# Altium schematic symbol library Sensor_Temperature.SchLib: 100 symbols
Pins are listed as number, name and electrical type; pins without a type are passive.

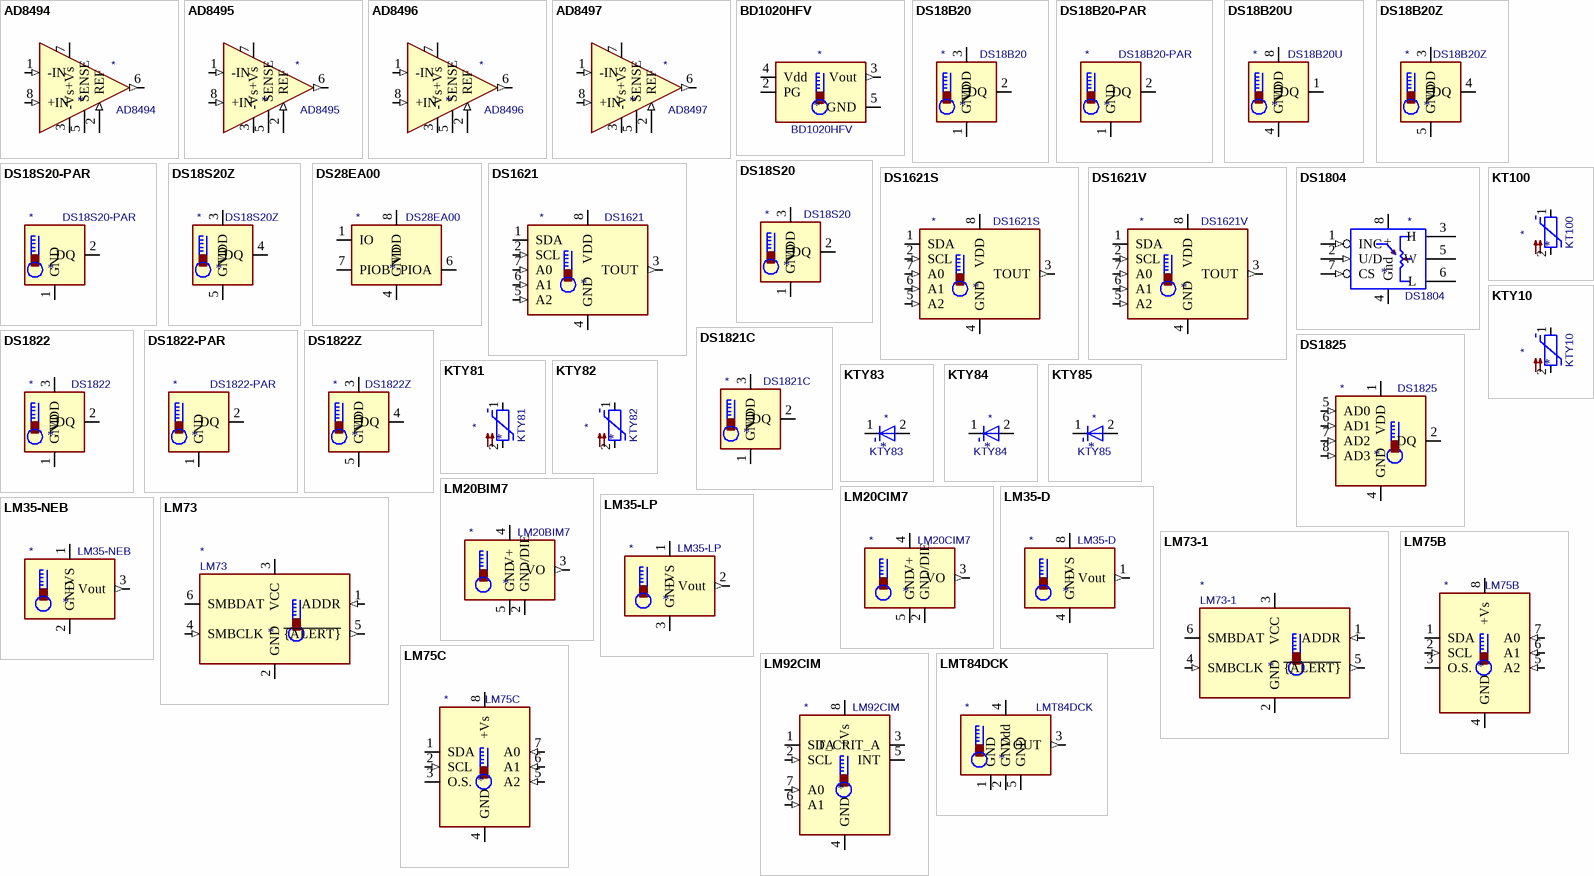
[diagram p0: symbols AD8494 to LMT84DCK]

## AD8494
designator *  value AD8494
ki_keywords: Thermocouple Amp; ki_description: Precision Thermocouple Amplifiers with Cold Junction Compensation, J-Type Thermocouple, 0 to 50C, MSOP-8; ki_fp_filters: MSOP*8*; Footprint: Package_SO:MSOP-8_3x3mm_P0.65mm; Supplier: https://www.analog.com/media/en/technical-documentation/data-sheets/ad8494_8495_8496_8497.pdf
footprint MSOP-8_3x3mm_P0.65mm
pins: 1 -IN (in), 2 REF (in), 3 -Vs (power), 4 NC (in) hidden, 5 SENSE, 6 (out), 7 +Vs (power), 8 +IN (in)

## AD8495
designator *  value AD8495
ki_keywords: Thermocouple Amp; ki_description: Precision Thermocouple Amplifiers with Cold Junction Compensation, K-Type Thermocouple, 0 to 50C, MSOP-8; ki_fp_filters: MSOP*8*; Footprint: Package_SO:MSOP-8_3x3mm_P0.65mm; Supplier: https://www.analog.com/media/en/technical-documentation/data-sheets/ad8494_8495_8496_8497.pdf
footprint MSOP-8_3x3mm_P0.65mm
pins: 1 -IN (in), 2 REF (in), 3 -Vs (power), 4 NC (in) hidden, 5 SENSE, 6 (out), 7 +Vs (power), 8 +IN (in)

## AD8496
designator *  value AD8496
ki_keywords: Thermocouple Amp; ki_description: Precision Thermocouple Amplifiers with Cold Junction Compensation, J-Type Thermocouple, 25 to 100C, MSOP-8; ki_fp_filters: MSOP*8*; Footprint: Package_SO:MSOP-8_3x3mm_P0.65mm; Supplier: https://www.analog.com/media/en/technical-documentation/data-sheets/ad8494_8495_8496_8497.pdf
footprint MSOP-8_3x3mm_P0.65mm
pins: 1 -IN (in), 2 REF (in), 3 -Vs (power), 4 NC (in) hidden, 5 SENSE, 6 (out), 7 +Vs (power), 8 +IN (in)

## AD8497
designator *  value AD8497
ki_keywords: Thermocouple Amp; ki_description: Precision Thermocouple Amplifiers with Cold Junction Compensation, K-Type Thermocouple, 25 to 100C, MSOP-8; ki_fp_filters: MSOP*8*; Footprint: Package_SO:MSOP-8_3x3mm_P0.65mm; Supplier: https://www.analog.com/media/en/technical-documentation/data-sheets/ad8494_8495_8496_8497.pdf
footprint MSOP-8_3x3mm_P0.65mm
pins: 1 -IN (in), 2 REF (in), 3 -Vs (power), 4 NC (in) hidden, 5 SENSE, 6 (out), 7 +Vs (power), 8 +IN (in)

## BD1020HFV
designator *  value BD1020HFV
ki_keywords: Temperature sensor; ki_description: Analog Output Temperature Sensor; ki_fp_filters: HVSOF5*; Footprint: Package_TO_SOT_SMD:HVSOF5; Supplier: http://rohmfs.rohm.com/en/products/databook/datasheet/ic/sensor/temperature/bd1020hfv-e.pdf
footprint HVSOF5
pins: 1 NC (in) hidden, 2 PG, 3 Vout (out), 4 Vdd (power), 5 GND (power)

## DS18B20
designator *  value DS18B20
ki_keywords: OneWire 1Wire Dallas Maxim; ki_description: Programmable Resolution 1-Wire Digital Thermometer TO-92; ki_fp_filters: TO*92*; Footprint: Package_TO_SOT_THT:TO-92_Inline; Supplier: http://datasheets.maximintegrated.com/en/ds/DS18B20.pdf
footprint TO-92_Inline
pins: 1 GND (power), 2 DQ (io), 3 VDD (power)

## DS18B20-PAR
designator *  value DS18B20-PAR
ki_keywords: OneWire 1Wire Maxim Dallas; ki_description: 1-Wire Parasite-Power Digital Thermometer TO-92; ki_fp_filters: TO*92*; Footprint: Package_TO_SOT_THT:TO-92_Inline; Supplier: http://datasheets.maximintegrated.com/en/ds/DS18B20-PAR.pdf
footprint TO-92_Inline
pins: 1 GND (power), 2 DQ (io), 3 NC (in) hidden

## DS18B20U
designator *  value DS18B20U
ki_keywords: OneWire 1-Wire 1Wire Maxim Dallas; ki_description: Programmable Resolution 1-Wire Digital Thermometer MSOP-8; ki_fp_filters: MSOP*3x3mm*P0.65mm*; Footprint: Package_SO:MSOP-8_3x3mm_P0.65mm; Supplier: http://datasheets.maximintegrated.com/en/ds/DS18B20.pdf
footprint MSOP-8_3x3mm_P0.65mm
pins: 1 DQ (io), 2 NC (in) hidden, 3 NC (in) hidden, 4 GND (power), 5 NC (in) hidden, 6 NC (in) hidden, 7 NC (in) hidden, 8 VDD (power)

## DS18B20Z
designator *  value DS18B20Z
ki_keywords: OneWire 1Wire Maxim Dallas; ki_description: Programmable Resolution 1-Wire Digital Thermometer SOIC-8; ki_fp_filters: SOIC*3.9x4.9mm*P1.27mm*; Footprint: Package_SO:SOIC-8_3.9x4.9mm_P1.27mm; Supplier: http://datasheets.maximintegrated.com/en/ds/DS18B20.pdf
footprint SOIC-8_3.9x4.9mm_P1.27mm
pins: 1 NC (in) hidden, 2 NC (in) hidden, 3 VDD (power), 4 DQ (io), 5 GND (power), 6 NC (in) hidden, 7 NC (in) hidden, 8 NC (in) hidden

## DS18S20
designator *  value DS18S20
ki_keywords: OneWire 1Wire Maxim Dallas; ki_description: High-Precision 1-Wire Digital Thermometer TO-92; ki_fp_filters: TO*92*; Footprint: Package_TO_SOT_THT:TO-92_Inline; Supplier: http://datasheets.maximintegrated.com/en/ds/DS18S20.pdf
footprint TO-92_Inline
pins: 1 GND (power), 2 DQ (io), 3 VDD (power)

## DS18S20-PAR
designator *  value DS18S20-PAR
ki_keywords: OneWire 1Wire Maxim Dallas; ki_description: 1-Wire Parasite-Power Digital Thermometer TO-92; ki_fp_filters: TO*92*; Footprint: Package_TO_SOT_THT:TO-92_Inline; Supplier: http://datasheets.maximintegrated.com/en/ds/DS18S20-PAR.pdf
footprint TO-92_Inline
pins: 1 GND (power), 2 DQ (io), 3 NC (in) hidden

## DS18S20Z
designator *  value DS18S20Z
ki_keywords: OneWire 1Wire Dallas Maxim; ki_description: High-Precision 1-Wire Digital Thermometer SOIC-8; ki_fp_filters: SOIC*3.9x4.9mm*P1.27mm*; Footprint: Package_SO:SOIC-8_3.9x4.9mm_P1.27mm; Supplier: http://datasheets.maximintegrated.com/en/ds/DS18S20.pdf
footprint SOIC-8_3.9x4.9mm_P1.27mm
pins: 1 NC (in) hidden, 2 NC (in) hidden, 3 VDD (power), 4 DQ (io), 5 GND (power), 6 NC (in) hidden, 7 NC (in) hidden, 8 NC (in) hidden

## DS28EA00
designator *  value DS28EA00
ki_keywords: 1Wire OneWire Maxim Dallas; ki_description: 1-Wire Digital Thermometer with Sequence Detect and PIO; ki_fp_filters: MSOP*3x3mm*P0.65mm*; Footprint: Package_SO:MSOP-8_3x3mm_P0.65mm; Supplier: http://datasheets.maximintegrated.com/en/ds/DS28EA00.pdf
footprint MSOP-8_3x3mm_P0.65mm
pins: 1 IO (io), 2 NC (in) hidden, 3 NC (in) hidden, 4 GND (power), 5 NC (in) hidden, 6 PIOA (io), 7 PIOB (io), 8 VDD (power)

## DS1621
designator *  value DS1621
ki_keywords: OneWire 1-Wire 1Wire Maxim Dallas; ki_description: 1-Wire Digital Thermometer and Thermostat, DIP-8; ki_fp_filters: DIP*W7.62mm*; Footprint: Package_DIP:DIP-8_W7.62mm; Supplier: https://datasheets.maximintegrated.com/en/ds/DS1621.pdf
footprint DIP-8_W7.62mm
pins: 1 SDA (io), 2 SCL (in), 3 TOUT (out), 4 GND (power), 5 A2 (in), 6 A1 (in), 7 A0 (in), 8 VDD (power)

## DS1621S
designator *  value DS1621S
ki_keywords: OneWire 1-Wire 1Wire Maxim Dallas; ki_description: 1-Wire Digital Thermometer and Thermostat, SOIC-8; ki_fp_filters: SOIC*3.9x4.9mm*P1.27mm*; Footprint: Package_SO:SOIC-8_3.9x4.9mm_P1.27mm; Supplier: https://datasheets.maximintegrated.com/en/ds/DS1621.pdf
footprint SOIC-8_3.9x4.9mm_P1.27mm
pins: 1 SDA (io), 2 SCL (in), 3 TOUT (out), 4 GND (power), 5 A2 (in), 6 A1 (in), 7 A0 (in), 8 VDD (power)

## DS1621V
designator *  value DS1621V
ki_keywords: OneWire 1-Wire 1Wire Maxim Dallas; ki_description: 1-Wire Digital Thermometer and Thermostat, SO-8; ki_fp_filters: SO*5.3x6.2mm*P1.27mm*; Footprint: Package_SO:SO-8_5.3x6.2mm_P1.27mm; Supplier: https://datasheets.maximintegrated.com/en/ds/DS1621.pdf
footprint SO-8_5.3x6.2mm_P1.27mm
pins: 1 SDA (io), 2 SCL (in), 3 TOUT (out), 4 GND (power), 5 A2 (in), 6 A1 (in), 7 A0 (in), 8 VDD (power)

## DS1804
designator *  value DS1804
pins: 1 INC (in), 2 U/D (in), 3 H, 4 Gnd (power), 5 W, 6 L, 7 CS (in), 8 + (power)

## DS1821C
designator *  value DS1821C
ki_keywords: OneWire 1Wire Maxim Dallas; ki_description: Programmable Digital Thermostat and Thermometer TO-92; ki_fp_filters: TO*92*; Footprint: Package_TO_SOT_THT:TO-92_Inline; Supplier: http://datasheets.maximintegrated.com/en/ds/DS1821.pdf
footprint TO-92_Inline
pins: 1 GND (power), 2 DQ (io), 3 VDD (power)

## DS1822
designator *  value DS1822
ki_keywords: OneWire 1Wire Dallas Maxim; ki_description: Econo 1-Wire Digital Thermometer TO-92; ki_fp_filters: TO*92*; Footprint: Package_TO_SOT_THT:TO-92_Inline; Supplier: http://datasheets.maximintegrated.com/en/ds/DS1822.pdf
footprint TO-92_Inline
pins: 1 GND (power), 2 DQ (io), 3 VDD (power)

## DS1822-PAR
designator *  value DS1822-PAR
ki_keywords: OneWire 1Wire Maxim Dallas; ki_description: Econo 1-Wire Parasite-Power Digital Thermometer TO-92; ki_fp_filters: TO*92*; Footprint: Package_TO_SOT_THT:TO-92_Inline; Supplier: http://datasheets.maximintegrated.com/en/ds/DS1822-PAR.pdf
footprint TO-92_Inline
pins: 1 GND (power), 2 DQ (io), 3 NC (in) hidden

## DS1822Z
designator *  value DS1822Z
ki_keywords: OneWire 1-Wire 1Wire Maxim Dallas; ki_description: Econo 1-Wire Digital Thermometer SOIC-8; ki_fp_filters: SOIC*3.9x4.9mm*P1.27mm*; Footprint: Package_SO:SOIC-8_3.9x4.9mm_P1.27mm; Supplier: http://datasheets.maximintegrated.com/en/ds/DS1822.pdf
footprint SOIC-8_3.9x4.9mm_P1.27mm
pins: 1 NC (in) hidden, 2 NC (in) hidden, 3 VDD (power), 4 DQ (io), 5 GND (power), 6 NC (in) hidden, 7 NC (in) hidden, 8 NC (in) hidden

## DS1825
designator *  value DS1825
ki_keywords: 1Wire OneWire Maxim Dallas; ki_description: Programmable Resolution 1-Wire Digital Thermometer With 4-Bit ID MSOP-8; ki_fp_filters: MSOP*3x3mm*P0.65mm*; Footprint: Package_SO:MSOP-8_3x3mm_P0.65mm; Supplier: http://datasheets.maximintegrated.com/en/ds/DS1825.pdf
footprint MSOP-8_3x3mm_P0.65mm
pins: 1 VDD (power), 2 DQ (io), 3 NC (in) hidden, 4 GND (power), 5 AD0 (in), 6 AD1 (in), 7 AD2 (in), 8 AD3 (in)

## KT100
designator *  value KT100
ki_keywords: silicon temperature sensors; ki_description: KTY10/KT100 series silicon temperature sensors; ki_fp_filters: SOD?70*; Supplier: http://www.b-kainka.de/Daten/Sensor/kty10.pdf
pins: 1, 2

## KTY10
designator *  value KTY10
ki_keywords: silicon temperature sensors; ki_description: KTY10/KT100 series silicon temperature sensors; ki_fp_filters: SOD?70*; Supplier: http://www.b-kainka.de/Daten/Sensor/kty10.pdf
pins: 1, 2

## KTY81
designator *  value KTY81
ki_keywords: silicon temperature sensors; ki_description: KTY81 series silicon temperature sensors; ki_fp_filters: SOD?70*; Supplier: http://www.nxp.com/documents/data_sheet/KTY81_SER.pdf
pins: 1, 2

## KTY82
designator *  value KTY82
ki_keywords: silicon temperature sensors; ki_description: KTY82 series silicon temperature sensors, SOT-23; ki_fp_filters: SOT?23*; Footprint: Package_TO_SOT_SMD:SOT-23; Supplier: http://www.nxp.com/documents/data_sheet/KTY82_SER.pdf
footprint SOT-23
pins: 1, 2

## KTY83
designator *  value KTY83
ki_keywords: silicon temperature sensors diode; ki_description: KTY83 series silicon temperature sensors, polarized, SOD68; ki_fp_filters: *DO?34*SOD68*; Footprint: Diode_THT:D_DO-34_SOD68_P7.62mm_Horizontal; Supplier: http://www.nxp.com/documents/data_sheet/KTY83_SER.pdf
footprint D_DO-34_SOD68_P7.62mm_Horizontal
pins: 1 K, 2 A

## KTY84
designator *  value KTY84
ki_keywords: silicon temperature sensor diode; ki_description: KTY84 series silicon temperature sensors, polarized, SOD68; ki_fp_filters: *DO?34*SOD68*; Footprint: Diode_THT:D_DO-34_SOD68_P7.62mm_Horizontal; Supplier: http://cache.nxp.com/documents/data_sheet/KTY84_SER.pdf?pspll=1
footprint D_DO-34_SOD68_P7.62mm_Horizontal
pins: 1 K, 2 A

## KTY85
designator *  value KTY85
ki_keywords: silicon temperature sensor diode; ki_description: KTY85 series silicon temperature sensors, polarized, SOD80; ki_fp_filters: SOD80*; Footprint: Diode_SMD:D_MiniMELF; Supplier: http://www.nxp.com/documents/other/SC17_GENERAL_TEMP_1996_3.pdf
footprint D_MiniMELF
pins: 1 K, 2 A

## LM20BIM7
designator *  value LM20BIM7
ki_keywords: temperature sensor thermistor; ki_description: Precision Temperature Sensor, Accuracy at 30°C ±1.5°C to ±4°C Maximum, SC70; ki_fp_filters: SOT?353*; Footprint: Package_TO_SOT_SMD:SOT-353_SC-70-5; Supplier: http://www.ti.com/lit/ds/symlink/lm20.pdf
footprint SOT-353_SC-70-5
pins: 1 NC (in) hidden, 2 GND/DIE, 3 VO (out), 4 V+ (power), 5 GND (power)

## LM20CIM7
designator *  value LM20CIM7
ki_keywords: temperature sensor thermistor; ki_description: Precision Temperature Sensor, Accuracy at 30°C ±4°C to ±5°C Maximum, SC70; ki_fp_filters: SOT?353*; Footprint: Package_TO_SOT_SMD:SOT-353_SC-70-5; Supplier: http://www.ti.com/lit/ds/symlink/lm20.pdf
footprint SOT-353_SC-70-5
pins: 1 NC (in) hidden, 2 GND/DIE, 3 VO (out), 4 V+ (power), 5 GND (power)

## LM35-D
designator *  value LM35-D
ki_keywords: temperature sensor thermistor; ki_description: Precision centigrade temperature sensor, SOIC-8; ki_fp_filters: SOIC*; Footprint: Package_SO:SOIC-8_3.9x4.9mm_P1.27mm; Supplier: http://www.ti.com/lit/ds/symlink/lm35.pdf
footprint SOIC-8_3.9x4.9mm_P1.27mm
pins: 1 Vout (out), 2 NC (in) hidden, 3 NC (in) hidden, 4 GND (power), 5 NC (in) hidden, 6 NC (in) hidden, 7 NC (in) hidden, 8 +VS (power)

## LM35-LP
designator *  value LM35-LP
ki_keywords: temperature sensor thermistor; ki_description: Precision centigrade temperature sensor, TO-92; ki_fp_filters: TO?92*; Supplier: http://www.ti.com/lit/ds/symlink/lm35.pdf
pins: 1 +VS (power), 2 Vout (out), 3 GND (power)

## LM35-NEB
designator *  value LM35-NEB
ki_keywords: temperature sensor thermistor; ki_description: Precision centigrade temperature sensor, TO-220; ki_fp_filters: TO?220*; Supplier: http://www.ti.com/lit/ds/symlink/lm35.pdf
pins: 1 +VS (power), 2 GND (power), 3 Vout (out)

## LM73
designator *  value LM73
ki_keywords: digital temperature sensor; ki_description: 11 to 14 Bit digital temperature sensor with 2 wire interface, SOT23-6; ki_fp_filters: SOT?23*; Footprint: Package_TO_SOT_SMD:SOT-23-6; Supplier: http://www.ti.com/lit/ds/symlink/lm73.pdf
footprint SOT-23-6
pins: 1 ADDR (in), 2 GND (power), 3 VCC (power), 4 SMBCLK (in), 5 ~{{ALERT}} (out), 6 SMBDAT (io)

## LM73-1
designator *  value LM73-1
ki_keywords: digital temperature sensor; ki_description: 11 to 14 Bit digital temperature sensor with 2 wire interface, SOT23-6; ki_fp_filters: SOT?23*; Footprint: Package_TO_SOT_SMD:SOT-23-6; Supplier: http://www.ti.com/lit/ds/symlink/lm73.pdf
footprint SOT-23-6
pins: 1 ADDR (in), 2 GND (power), 3 VCC (power), 4 SMBCLK (in), 5 ~{{ALERT}} (out), 6 SMBDAT (io)

## LM75B
designator *  value LM75B
ki_keywords: Temperature sensor; ki_description: Digital Temperature Sensor & Thermal Watchdog with LP on I2C and bus fault timeout, SOIC-8 and VSSOP-8; ki_fp_filters: SOIC*3.9x4.9mm*P1.27mm* VSSOP*3.0x3.0mm*P0.65mm*; Supplier: http://www.ti.com/lit/ds/symlink/lm75b.pdf
pins: 1 SDA (io), 2 SCL (in), 3 O.S. (oc), 4 GND (power), 5 A2 (in), 6 A1 (in), 7 A0 (in), 8 +Vs (power)

## LM75C
designator *  value LM75C
ki_keywords: Temperature sensor; ki_description: Digital Temperature Sensor & Thermal Watchdog, SOIC-8 and VSSOP-8; ki_fp_filters: SOIC*3.9x4.9mm*P1.27mm* VSSOP*3.0x3.0mm*P0.65mm*; Supplier: http://www.ti.com/lit/ds/symlink/lm75b.pdf
pins: 1 SDA (io), 2 SCL (in), 3 O.S. (oc), 4 GND (power), 5 A2 (in), 6 A1 (in), 7 A0 (in), 8 +Vs (power)

## LM92CIM
designator *  value LM92CIM
ki_keywords: temperature sensor; ki_description: Digital Temperature Sensor and Thermal Window Comparator With Two-Wire (I2C) Interface, SOIC-8; ki_fp_filters: SOIC*3.9x4.9mm*P1.27mm*; Footprint: Package_SO:SOIC-8_3.9x4.9mm_P1.27mm; Supplier: https://www.ti.com/lit/ds/symlink/lm92.pdf
footprint SOIC-8_3.9x4.9mm_P1.27mm
pins: 1 SDA (io), 2 SCL (in), 3 T_CRIT_A (oc), 4 GND (power), 5 INT (oc), 6 A1 (in), 7 A0 (in), 8 +Vs (power)

## LMT84DCK
designator *  value LMT84DCK
ki_keywords: temperature sensor thermistor ntc; ki_description: Analog temperature sensor, NTC, 0.4C accuracy, -5.5mV/C, -50C to +150C, 1.5 to 5.5V, SC-70-5; ki_fp_filters: SC-70-*; Footprint: Package_TO_SOT_SMD:SOT-353_SC-70-5; Supplier: http://www.ti.com/lit/ds/symlink/lmt84.pdf
footprint SOT-353_SC-70-5
pins: 1 GND (power), 2 GND (power), 3 OUT (out), 4 Vdd (power), 5 GND (power)

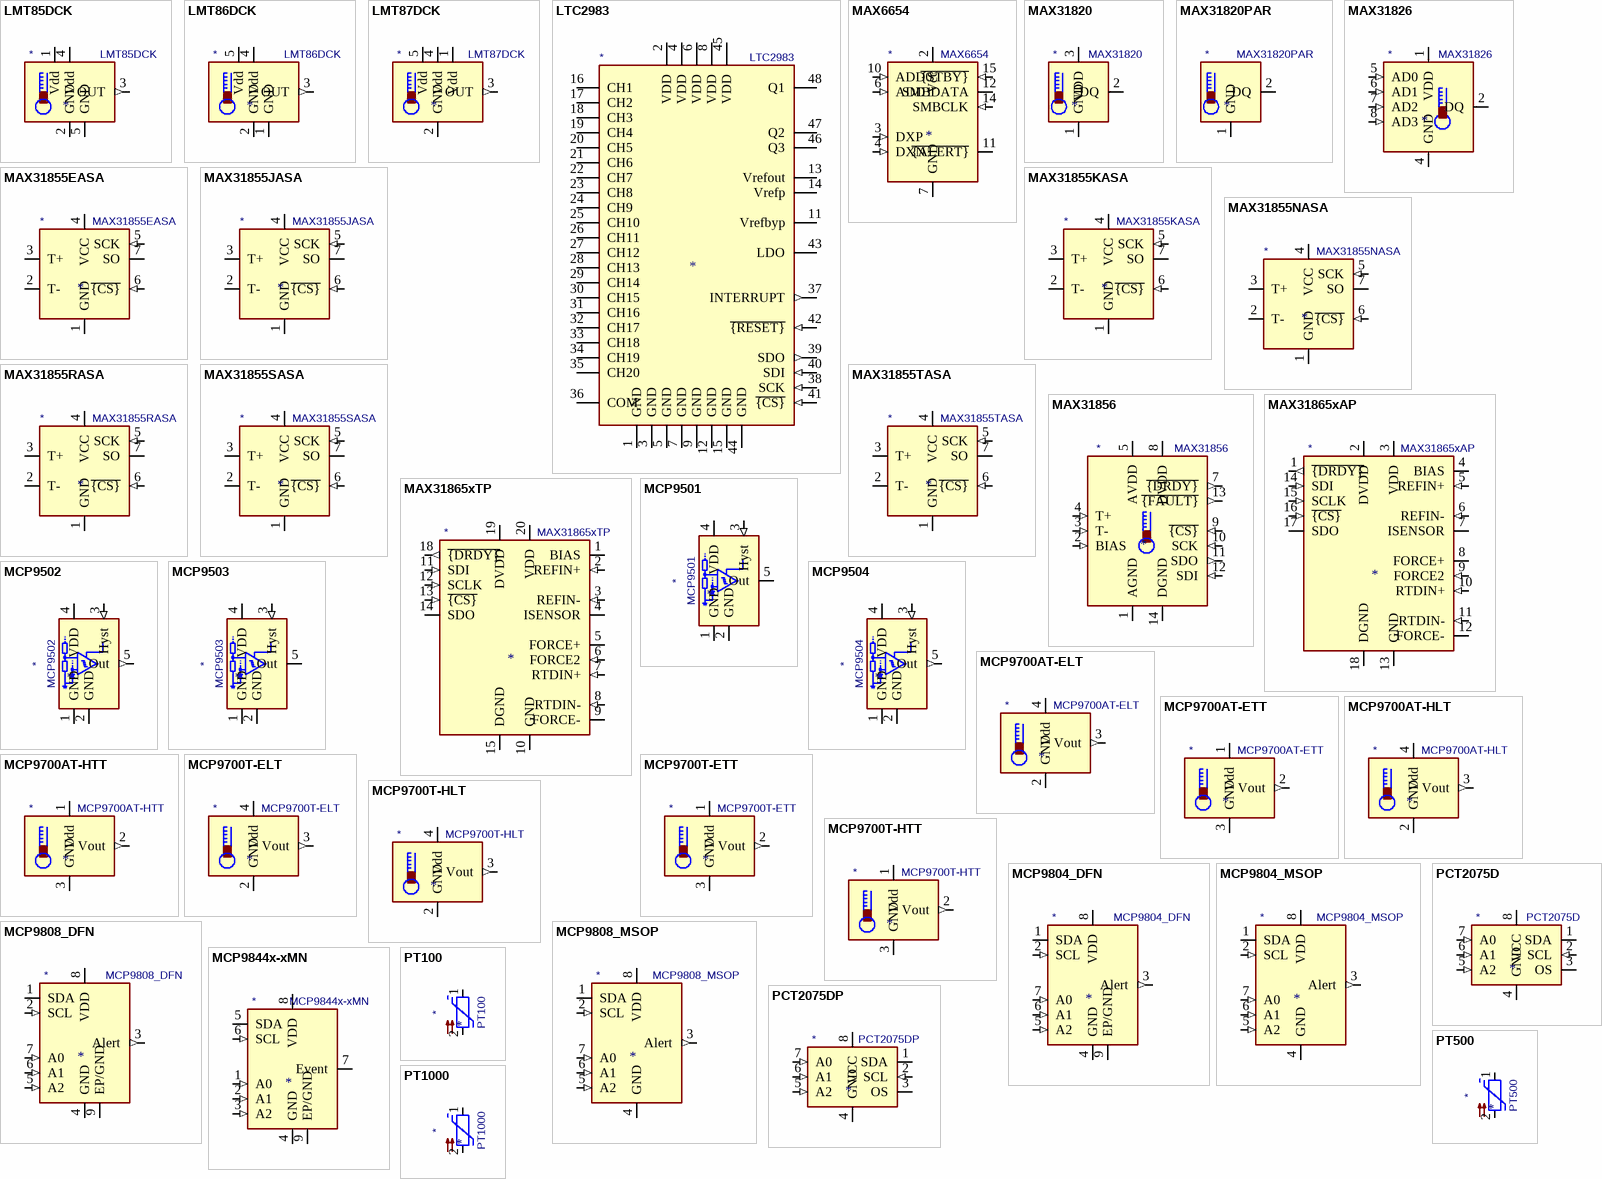
[diagram p1: symbols LMT85DCK to PT1000]

## LMT85DCK
designator *  value LMT85DCK
ki_keywords: temperature sensor thermistor ntc; ki_description: Analog temperature sensor, NTC, 0.3C accuracy, -8.2mV/C, -50C to +150C, 1.8 to 5.5V, SC-70-5; ki_fp_filters: SC-70-*; Footprint: Package_TO_SOT_SMD:SOT-353_SC-70-5; Supplier: http://www.ti.com/lit/ds/symlink/lmt85-q1.pdf
footprint SOT-353_SC-70-5
pins: 1 Vdd (power), 2 GND (power), 3 OUT (out), 4 Vdd (power), 5 GND (power)

## LMT86DCK
designator *  value LMT86DCK
ki_keywords: temperature sensor thermistor ntc; ki_description: Analog temperature sensor, NTC, 0.25C accuracy, -10.9mV/C, -50C to +150C, 2.2 to 5.5V, SC-70-5; ki_fp_filters: SC-70-*; Footprint: Package_TO_SOT_SMD:SOT-353_SC-70-5; Supplier: http://www.ti.com/lit/ds/symlink/lmt86-q1.pdf
footprint SOT-353_SC-70-5
pins: 1 GND (power), 2 GND (power), 3 OUT (out), 4 Vdd (power), 5 Vdd (power)

## LMT87DCK
designator *  value LMT87DCK
ki_keywords: temperature sensor thermistor ntc; ki_description: Analog temperature sensor, NTC, 0.3C accuracy, -13.6mV/C, -50C to +150C, 2.7 to 5.5V, SC-70-5; ki_fp_filters: SC-70-*; Footprint: Package_TO_SOT_SMD:SOT-353_SC-70-5; Supplier: http://www.ti.com/lit/ds/symlink/lmt87-q1.pdf
footprint SOT-353_SC-70-5
pins: 1 Vdd (power), 2 GND (power), 3 OUT (out), 4 Vdd (power), 5 Vdd (power)

## LTC2983
designator *  value LTC2983
ki_keywords: Flexible Temperature Measurement RTD NTC Cold Junction Termocouple; ki_description: Multi-Sensor Temperature Measurement System, High Accuracy, LQFP-48 (7x7mm); ki_fp_filters: LQFP*7x7mm*P0.5mm*; Footprint: Package_QFP:LQFP-48_7x7mm_P0.5mm; Supplier: https://www.analog.com/media/en/technical-documentation/data-sheets/2983fc.pdf
footprint LQFP-48_7x7mm_P0.5mm
pins: 1 GND (power), 2 VDD (power), 3 GND (power), 4 VDD (power), 5 GND (power), 6 VDD (power), 7 GND (power), 8 VDD (power), 9 GND (power), 11 Vrefbyp, 12 GND (power), 13 Vrefout, 14 Vrefp, 15 GND (power), 16 CH1, 17 CH2, 18 CH3, 19 CH4, 20 CH5, 21 CH6, 22 CH7, 23 CH8, 24 CH9, 25 CH10, 26 CH11, 27 CH12, 28 CH13, 29 CH14, 30 CH15, 31 CH16, 32 CH17, 33 CH18, 34 CH19, 35 CH20, 36 COM, 37 INTERRUPT (out), 38 SCK (in), 39 SDO (out), 40 SDI (in), 41 ~{{CS}} (in), 42 ~{{RESET}} (in), 43 LDO, 44 GND (power), 45 VDD (power), 46 Q3, 47 Q2, 48 Q1

## MAX6654
designator *  value MAX6654
ki_keywords: I2C SMBus Serial; ki_description: Remote and Local Temperature Sensor, SSOP-16; ki_fp_filters: *SOP*3.9x4.9mm*P0.635mm*; Footprint: Package_SO:SSOP-16_3.9x4.9mm_P0.635mm; Supplier: https://datasheets.maximintegrated.com/en/ds/MAX6654.pdf
footprint SSOP-16_3.9x4.9mm_P0.635mm
pins: 1 NC (in) hidden, 2 Vcc (power), 3 DXP (in), 4 DXN (in), 5 NC (in) hidden, 6 ADD1 (in), 7 GND (power), 8 GND hidden, 9 NC (in) hidden, 10 ADD0 (in), 11 ~{{ALERT}} (oc), 12 SMBDATA (io), 13 NC (in) hidden, 14 SMBCLK (in), 15 ~{{STBY}} (in), 16 NC (in) hidden

## MAX31820
designator *  value MAX31820
ki_keywords: OneWire 1-Wire 1Wire Maxim Dallas; ki_description: 1-Wire Ambient Temperature Sensor TO-92; ki_fp_filters: TO*92*; Footprint: Package_TO_SOT_THT:TO-92_Inline; Supplier: http://datasheets.maximintegrated.com/en/ds/MAX31820.pdf
footprint TO-92_Inline
pins: 1 GND (power), 2 DQ (io), 3 VDD (power)

## MAX31820PAR
designator *  value MAX31820PAR
ki_keywords: OneWire 1-Wire 1Wire Maxim Dallas; ki_description: 1-Wire, Parasite-Power, Ambient Temperature Sensor TO-92; ki_fp_filters: TO*92*; Footprint: Package_TO_SOT_THT:TO-92_Inline; Supplier: http://datasheets.maximintegrated.com/en/ds/MAX31820PAR.pdf
footprint TO-92_Inline
pins: 1 GND (power), 2 DQ (io), 3 NC (in) hidden

## MAX31826
designator *  value MAX31826
ki_keywords: 1Wire OneWire Maxim Dallas; ki_description: 1-Wire Digital Temperature Sensor with 1Kb Lockable EEPROM MSOP-8; ki_fp_filters: MSOP*3x3mm*P0.65mm*; Footprint: Package_SO:MSOP-8_3x3mm_P0.65mm; Supplier: http://datasheets.maximintegrated.com/en/ds/MAX31826.pdf
footprint MSOP-8_3x3mm_P0.65mm
pins: 1 VDD (power), 2 DQ (io), 3 NC (in) hidden, 4 GND (power), 5 AD0 (in), 6 AD1 (in), 7 AD2 (in), 8 AD3 (in)

## MAX31855EASA
designator *  value MAX31855EASA
ki_keywords: Cold Junction Termocouple Interface SPI; ki_description: Cold Junction E-type Termocouple Interface, SPI, SO8; ki_fp_filters: SOIC*3.9x4.9mm*P1.27mm*; Footprint: Package_SO:SOIC-8_3.9x4.9mm_P1.27mm; Supplier: http://datasheets.maximintegrated.com/en/ds/MAX31855.pdf
footprint SOIC-8_3.9x4.9mm_P1.27mm
pins: 1 GND (power), 2 T-, 3 T+, 4 VCC (power), 5 SCK (in), 6 ~{{CS}} (in), 7 SO (hiz)

## MAX31855JASA
designator *  value MAX31855JASA
ki_keywords: Cold Junction Termocouple Interface SPI; ki_description: Cold Junction J-type Termocouple Interface, SPI, SO8; ki_fp_filters: SOIC*3.9x4.9mm*P1.27mm*; Footprint: Package_SO:SOIC-8_3.9x4.9mm_P1.27mm; Supplier: http://datasheets.maximintegrated.com/en/ds/MAX31855.pdf
footprint SOIC-8_3.9x4.9mm_P1.27mm
pins: 1 GND (power), 2 T-, 3 T+, 4 VCC (power), 5 SCK (in), 6 ~{{CS}} (in), 7 SO (hiz)

## MAX31855KASA
designator *  value MAX31855KASA
ki_keywords: Cold Junction Termocouple Interface SPI; ki_description: Cold Junction K-type Termocouple Interface, SPI, SO8; ki_fp_filters: SOIC*3.9x4.9mm*P1.27mm*; Footprint: Package_SO:SOIC-8_3.9x4.9mm_P1.27mm; Supplier: http://datasheets.maximintegrated.com/en/ds/MAX31855.pdf
footprint SOIC-8_3.9x4.9mm_P1.27mm
pins: 1 GND (power), 2 T-, 3 T+, 4 VCC (power), 5 SCK (in), 6 ~{{CS}} (in), 7 SO (hiz)

## MAX31855NASA
designator *  value MAX31855NASA
ki_keywords: Cold Junction Termocouple Interface SPI; ki_description: Cold Junction N-type Termocouple Interface, SPI, SO8; ki_fp_filters: SOIC*3.9x4.9mm*P1.27mm*; Footprint: Package_SO:SOIC-8_3.9x4.9mm_P1.27mm; Supplier: http://datasheets.maximintegrated.com/en/ds/MAX31855.pdf
footprint SOIC-8_3.9x4.9mm_P1.27mm
pins: 1 GND (power), 2 T-, 3 T+, 4 VCC (power), 5 SCK (in), 6 ~{{CS}} (in), 7 SO (hiz)

## MAX31855RASA
designator *  value MAX31855RASA
ki_keywords: Cold Junction Termocouple Interface SPI; ki_description: Cold Junction R-type Termocouple Interface, SPI, SO8; ki_fp_filters: SOIC*3.9x4.9mm*P1.27mm*; Footprint: Package_SO:SOIC-8_3.9x4.9mm_P1.27mm; Supplier: http://datasheets.maximintegrated.com/en/ds/MAX31855.pdf
footprint SOIC-8_3.9x4.9mm_P1.27mm
pins: 1 GND (power), 2 T-, 3 T+, 4 VCC (power), 5 SCK (in), 6 ~{{CS}} (in), 7 SO (hiz)

## MAX31855SASA
designator *  value MAX31855SASA
ki_keywords: Cold Junction Termocouple Interface SPI; ki_description: Cold Junction S-type Termocouple Interface, SPI, SO8; ki_fp_filters: SOIC*3.9x4.9mm*P1.27mm*; Footprint: Package_SO:SOIC-8_3.9x4.9mm_P1.27mm; Supplier: http://datasheets.maximintegrated.com/en/ds/MAX31855.pdf
footprint SOIC-8_3.9x4.9mm_P1.27mm
pins: 1 GND (power), 2 T-, 3 T+, 4 VCC (power), 5 SCK (in), 6 ~{{CS}} (in), 7 SO (hiz)

## MAX31855TASA
designator *  value MAX31855TASA
ki_keywords: Cold Junction Termocouple Interface SPI; ki_description: Cold Junction T-type Termocouple Interface, SPI, SO8; ki_fp_filters: SOIC*3.9x4.9mm*P1.27mm*; Footprint: Package_SO:SOIC-8_3.9x4.9mm_P1.27mm; Supplier: http://datasheets.maximintegrated.com/en/ds/MAX31855.pdf
footprint SOIC-8_3.9x4.9mm_P1.27mm
pins: 1 GND (power), 2 T-, 3 T+, 4 VCC (power), 5 SCK (in), 6 ~{{CS}} (in), 7 SO (hiz)

## MAX31856
designator *  value MAX31856
ki_keywords: Thermocouple converter serial; ki_description: Precision Thermocouple to Digital Converter with Linearization, TSSOP-14; ki_fp_filters: TSSOP*14*4.4x5mm*P0.65mm*; Footprint: Package_SO:TSSOP-14_4.4x5mm_P0.65mm; Supplier: https://datasheets.maximintegrated.com/en/ds/MAX31856.pdf
footprint TSSOP-14_4.4x5mm_P0.65mm
pins: 1 AGND (power), 2 BIAS (in), 3 T- (in), 4 T+ (in), 5 AVDD (power), 6 DNC (in) hidden, 7 ~{{DRDY}} (out), 8 DVDD (power), 9 ~{{CS}} (in), 10 SCK (in), 11 SDO (out), 12 SDI (in), 13 ~{{FAULT}} (out), 14 DGND (power)

## MAX31865xAP
designator *  value MAX31865xAP
ki_keywords: RTD SPI Temperature; ki_description: RTD-to-Digital Converter, SSOP-20; ki_fp_filters: SSOP*P0.65mm*; Footprint: Package_SO:SSOP-20_5.3x7.2mm_P0.65mm; Supplier: https://datasheets.maximintegrated.com/en/ds/MAX31865.pdf
footprint SSOP-20_5.3x7.2mm_P0.65mm
pins: 1 ~{{DRDY}} (out), 2 DVDD (power), 3 VDD (power), 4 BIAS (power), 5 REFIN+ (in), 6 REFIN- (in), 7 ISENSOR, 8 FORCE+, 9 FORCE2 (in), 10 RTDIN+ (in), 11 RTDIN- (in), 12 FORCE- (power), 13 GND (power), 14 SDI (in), 15 SCLK (in), 16 ~{{CS}} (in), 17 SDO (hiz), 18 DGND (power), 19 GND hidden, 20 NC (in) hidden

## MAX31865xTP
designator *  value MAX31865xTP
ki_keywords: RTD SPI Temperature; ki_description: RTD-to-Digital Converter, TQFN-20; ki_fp_filters: TQFN*1EP*5x5mm*P0.65mm*; Footprint: Package_DFN_QFN:TQFN-20-1EP_5x5mm_P0.65mm_EP3.25x3.25mm; Supplier: https://datasheets.maximintegrated.com/en/ds/MAX31865.pdf
footprint TQFN-20-1EP_5x5mm_P0.65mm_EP3.25x3.25mm
pins: 1 BIAS (power), 2 REFIN+ (in), 3 REFIN- (in), 4 ISENSOR, 5 FORCE+, 6 FORCE2 (in), 7 RTDIN+ (in), 8 RTDIN- (in), 9 FORCE- (power), 10 GND (power), 11 SDI (in), 12 SCLK (in), 13 ~{{CS}} (in), 14 SDO (hiz), 15 DGND (power), 16 GND hidden, 17 NC (in) hidden, 18 ~{{DRDY}} (out), 19 DVDD (power), 20 VDD (power), 21 GND hidden

## MCP9501
designator *  value MCP9501
ki_keywords: Temperature Switch sensor; ki_description: Temperature Switch with Selectable Hysteresis, Open-Drain, Active-Low Output (Hot Option), SOT-23-5; ki_fp_filters: SOT?23*; Footprint: Package_TO_SOT_SMD:SOT-23-5; Supplier: http://ww1.microchip.com/downloads/en/DeviceDoc/20002268B.pdf
footprint SOT-23-5
pins: 1 GND (power), 2 GND (power), 3 Hyst (in), 4 VDD (power), 5 Out (oc)

## MCP9502
designator *  value MCP9502
ki_keywords: Temperature Switch sensor; ki_description: Temperature Switch with Selectable Hysteresis, Push-Pull, Active-High Output (Hot Option), SOT-23-5; ki_fp_filters: SOT?23*; Footprint: Package_TO_SOT_SMD:SOT-23-5; Supplier: http://ww1.microchip.com/downloads/en/DeviceDoc/20002268B.pdf
footprint SOT-23-5
pins: 1 GND (power), 2 GND (power), 3 Hyst (in), 4 VDD (power), 5 Out (out)

## MCP9503
designator *  value MCP9503
ki_keywords: Temperature Switch sensor; ki_description: Temperature Switch with Selectable Hysteresis, Open-Drain, Active-Low Output (Cold Option), SOT-23-5; ki_fp_filters: SOT?23*; Footprint: Package_TO_SOT_SMD:SOT-23-5; Supplier: http://ww1.microchip.com/downloads/en/DeviceDoc/20002268B.pdf
footprint SOT-23-5
pins: 1 GND (power), 2 GND (power), 3 Hyst (in), 4 VDD (power), 5 Out (oc)

## MCP9504
designator *  value MCP9504
ki_keywords: Temperature Switch sensor; ki_description: Temperature Switch with Selectable Hysteresis, Push-Pull, Active-High Output (Cold Option), SOT-23-5; ki_fp_filters: SOT?23*; Footprint: Package_TO_SOT_SMD:SOT-23-5; Supplier: http://ww1.microchip.com/downloads/en/DeviceDoc/20002268B.pdf
footprint SOT-23-5
pins: 1 GND (power), 2 GND (power), 3 Hyst (in), 4 VDD (power), 5 Out (out)

## MCP9700AT-ELT
designator *  value MCP9700AT-ELT
ki_keywords: temperature sensor thermistor; ki_description: Low power, analog thermistor temperature sensor, ±2C accuracy, -40C to +125C, in SC-70-5; ki_fp_filters: SC-70-5*; Footprint: Package_TO_SOT_SMD:SOT-353_SC-70-5; Supplier: http://ww1.microchip.com/downloads/en/DeviceDoc/20001942G.pdf
footprint SOT-353_SC-70-5
pins: 1 NC (in) hidden, 2 GND (power), 3 Vout (out), 4 Vdd (power), 5 NC (in) hidden

## MCP9700AT-ETT
designator *  value MCP9700AT-ETT
ki_keywords: temperature sensor thermistor; ki_description: Low power, analog thermistor temperature sensor, ±2C accuracy, -40C to +125C, in SOT-23-3; ki_fp_filters: SOT?23*; Footprint: Package_TO_SOT_SMD:SOT-23; Supplier: http://ww1.microchip.com/downloads/en/DeviceDoc/21942e.pdf
footprint SOT-23
pins: 1 Vdd (power), 2 Vout (out), 3 GND (power)

## MCP9700AT-HLT
designator *  value MCP9700AT-HLT
ki_keywords: temperature sensor thermistor; ki_description: Low power, analog thermistor temperature sensor, ±2C accuracy, -40C to +150C, in SC-70-5; ki_fp_filters: SC-70-5*; Footprint: Package_TO_SOT_SMD:SOT-353_SC-70-5; Supplier: http://ww1.microchip.com/downloads/en/DeviceDoc/21942e.pdf
footprint SOT-353_SC-70-5
pins: 1 NC (in) hidden, 2 GND (power), 3 Vout (out), 4 Vdd (power), 5 NC (in) hidden

## MCP9700AT-HTT
designator *  value MCP9700AT-HTT
ki_keywords: temperature sensor thermistor; ki_description: Low power, analog thermistor temperature sensor, ±2C accuracy, -40C to +150C, in SOT-23-3; ki_fp_filters: SOT?23*; Footprint: Package_TO_SOT_SMD:SOT-23; Supplier: http://ww1.microchip.com/downloads/en/DeviceDoc/21942e.pdf
footprint SOT-23
pins: 1 Vdd (power), 2 Vout (out), 3 GND (power)

## MCP9700T-ELT
designator *  value MCP9700T-ELT
ki_keywords: temperature sensor thermistor; ki_description: Low power, analog thermistor temperature sensor, ±4C accuracy, -40C to +125C, in SC-70-5; ki_fp_filters: SC-70-5*; Footprint: Package_TO_SOT_SMD:SOT-353_SC-70-5; Supplier: http://ww1.microchip.com/downloads/en/DeviceDoc/21942e.pdf
footprint SOT-353_SC-70-5
pins: 1 NC (in) hidden, 2 GND (power), 3 Vout (out), 4 Vdd (power), 5 NC (in) hidden

## MCP9700T-ETT
designator *  value MCP9700T-ETT
ki_keywords: temperature sensor thermistor; ki_description: Low power, analog thermistor temperature sensor, ±4C accuracy, -40C to +125C, in SOT-23-3; ki_fp_filters: SOT?23*; Footprint: Package_TO_SOT_SMD:SOT-23; Supplier: http://ww1.microchip.com/downloads/en/DeviceDoc/21942e.pdf
footprint SOT-23
pins: 1 Vdd (power), 2 Vout (out), 3 GND (power)

## MCP9700T-HLT
designator *  value MCP9700T-HLT
ki_keywords: temperature sensor thermistor; ki_description: Low power, analog thermistor temperature sensor, ±4C accuracy, -40C to +150C, in SC-70-5; ki_fp_filters: SC-70-5*; Footprint: Package_TO_SOT_SMD:SOT-353_SC-70-5; Supplier: http://ww1.microchip.com/downloads/en/DeviceDoc/21942e.pdf
footprint SOT-353_SC-70-5
pins: 1 NC (in) hidden, 2 GND (power), 3 Vout (out), 4 Vdd (power), 5 NC (in) hidden

## MCP9700T-HTT
designator *  value MCP9700T-HTT
ki_keywords: temperature sensor thermistor; ki_description: Low power, analog thermistor temperature sensor, ±4C accuracy, -40C to +150C, in SOT-23-3; ki_fp_filters: SOT?23*; Footprint: Package_TO_SOT_SMD:SOT-23; Supplier: http://ww1.microchip.com/downloads/en/DeviceDoc/21942e.pdf
footprint SOT-23
pins: 1 Vdd (power), 2 Vout (out), 3 GND (power)

## MCP9804_DFN
designator *  value MCP9804_DFN
ki_keywords: temperature sensor I2C; ki_description: +/-0.25C (+/-1C) Typical (Maximum), Digital Temperature Sensor, DFN-8; ki_fp_filters: DFN*1EP*3x2mm*P0.5mm*; Footprint: Package_DFN_QFN:DFN-8-1EP_3x2mm_P0.5mm_EP1.7x1.4mm; Supplier: http://ww1.microchip.com/downloads/en/DeviceDoc/22203b.pdf
footprint DFN-8-1EP_3x2mm_P0.5mm_EP1.7x1.4mm
pins: 1 SDA (io), 2 SCL (in), 3 Alert (out), 4 GND (power), 5 A2 (in), 6 A1 (in), 7 A0 (in), 8 VDD (power), 9 EP/GND (power)

## MCP9804_MSOP
designator *  value MCP9804_MSOP
ki_keywords: temperature sensor I2C; ki_description: +/-0.25C (+/-1C) Typical (Maximum), Digital Temperature Sensor, MSOP-8; ki_fp_filters: MSOP*3x3mm*P0.65mm*; Footprint: Package_SO:MSOP-8_3x3mm_P0.65mm; Supplier: http://ww1.microchip.com/downloads/en/DeviceDoc/22203b.pdf
footprint MSOP-8_3x3mm_P0.65mm
pins: 1 SDA (io), 2 SCL (in), 3 Alert (out), 4 GND (power), 5 A2 (in), 6 A1 (in), 7 A0 (in), 8 VDD (power)

## MCP9808_DFN
designator *  value MCP9808_DFN
ki_keywords: temperature sensor I2C; ki_description: +/-0.25C (+/-0.5C) Typical (Maximum), Digital Temperature Sensor, DFN-8; ki_fp_filters: DFN*1EP*3x2mm*P0.5mm*; Footprint: Package_DFN_QFN:DFN-8-1EP_3x2mm_P0.5mm_EP1.7x1.4mm; Supplier: http://ww1.microchip.com/downloads/en/DeviceDoc/MCP9808-0.5C-Maximum-Accuracy-Digital-Temperature-Sensor-Data-Sheet-DS20005095B.pdf
footprint DFN-8-1EP_3x2mm_P0.5mm_EP1.7x1.4mm
pins: 1 SDA (io), 2 SCL (in), 3 Alert (out), 4 GND (power), 5 A2 (in), 6 A1 (in), 7 A0 (in), 8 VDD (power), 9 EP/GND (power)

## MCP9808_MSOP
designator *  value MCP9808_MSOP
ki_keywords: temperature sensor I2C; ki_description: +/-0.25C (+/-0.5C) Typical (Maximum), Digital Temperature Sensor, MSOP-8; ki_fp_filters: MSOP*3x3mm*P0.65mm*; Footprint: Package_SO:MSOP-8_3x3mm_P0.65mm; Supplier: http://ww1.microchip.com/downloads/en/DeviceDoc/22203b.pdf
footprint MSOP-8_3x3mm_P0.65mm
pins: 1 SDA (io), 2 SCL (in), 3 Alert (out), 4 GND (power), 5 A2 (in), 6 A1 (in), 7 A0 (in), 8 VDD (power)

## MCP9844x-xMN
designator *  value MCP9844x-xMN
ki_keywords: I2C TWI; ki_description: ±1°C Accurate, 1.8V Digital Temperature Sensor, I²C, DFN-8; ki_fp_filters: DFN*3x2mm*P0.5mm*; Footprint: Package_DFN_QFN:DFN-8-1EP_3x2mm_P0.5mm_EP1.36x1.46mm; Supplier: http://ww1.microchip.com/downloads/en/DeviceDoc/20005192B.pdf
footprint DFN-8-1EP_3x2mm_P0.5mm_EP1.36x1.46mm
pins: 1 A0 (in), 2 A1 (in), 3 A2 (in), 4 GND (power), 5 SDA (io), 6 SCL (in), 7 Event (oc), 8 VDD (power), 9 EP/GND (power)

## PCT2075D
designator *  value PCT2075D
ki_keywords: temperature sensor I2C single channel; ki_description: NXP I2C-bus Fm+ digital temperature sensor and thermal watchdog, SO-8; ki_fp_filters: SO*3.9x4.9mm*P1.27mm*; Footprint: Package_SO:SO-8_3.9x4.9mm_P1.27mm; Supplier: https://www.nxp.com/docs/en/data-sheet/PCT2075.pdf
footprint SO-8_3.9x4.9mm_P1.27mm
pins: 1 SDA (io), 2 SCL (in), 3 OS (oc), 4 GND (power), 5 A2 (in), 6 A1 (in), 7 A0 (in), 8 VCC (power)

## PCT2075DP
designator *  value PCT2075DP
ki_keywords: temperature sensor I2C single channel; ki_description: NXP I2C-bus Fm+ digital temperature sensor and thermal watchdog, TSSOP-8; ki_fp_filters: TSSOP*3x3mm*P0.65mm*; Footprint: Package_SO:TSSOP-8_3x3mm_P0.65mm; Supplier: https://www.nxp.com/docs/en/data-sheet/PCT2075.pdf
footprint TSSOP-8_3x3mm_P0.65mm
pins: 1 SDA (io), 2 SCL (in), 3 OS (oc), 4 GND (power), 5 A2 (in), 6 A1 (in), 7 A0 (in), 8 VCC (power)

## PT100
designator *  value PT100
ki_keywords: platinum temperature sensor RTD; ki_description: PT100 platinum temperature sensor (RTD); ki_fp_filters: TO?92* PIN?ARRAY* bornier* Terminal?Block* SOD70* R*1206* R*0805*; Supplier: https://www.heraeus.com/media/media/group/doc_group/products_1/hst/sot_to/de_15/to_92_d.pdf
pins: 1, 2

## PT500
designator *  value PT500
ki_keywords: platinum temperature sensor RTD; ki_description: PT500 platinum temperature sensor (RTD); ki_fp_filters: TO?92* PIN?ARRAY* bornier* Terminal?Block* SOD70* R*1206* R*0805*; Supplier: https://www.heraeus.com/media/media/group/doc_group/products_1/hst/sot_to/de_15/to_92_d.pdf
pins: 1, 2

## PT1000
designator *  value PT1000
ki_keywords: platinum temperature sensor RTD; ki_description: PT1000 platinum temperature sensor (RTD); ki_fp_filters: TO?92* PIN?ARRAY* bornier* Terminal?Block* SOD70* R*1206* R*0805*; Supplier: https://www.heraeus.com/media/media/group/doc_group/products_1/hst/sot_to/de_15/to_92_d.pdf
pins: 1, 2

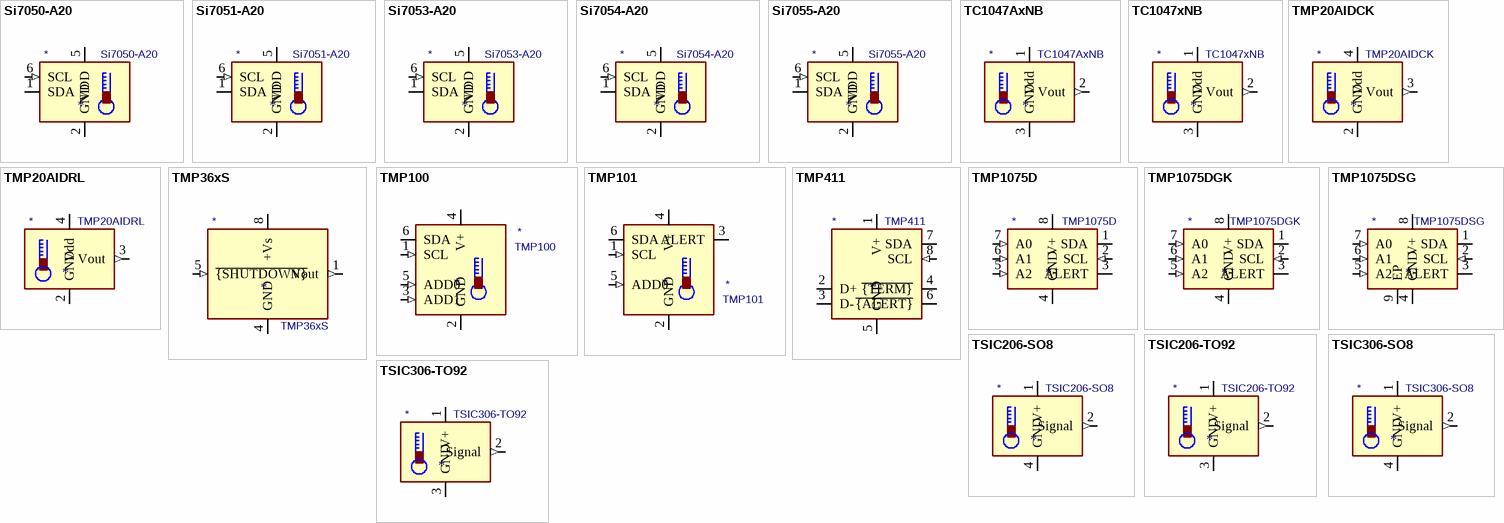
[diagram p2: symbols Si7050-A20 to TSIC306-TO92]

## Si7050-A20
designator *  value Si7050-A20
ki_keywords: I2C Temperature Sensor; ki_description: I2C Temperature Sensor, ±1.0ºC, DFN-6; ki_fp_filters: DFN*1EP*3x3mm*P1mm*; Footprint: Package_DFN_QFN:DFN-6-1EP_3x3mm_P1mm_EP1.65x2.55mm; Supplier: https://www.silabs.com/documents/public/data-sheets/Si7050-1-3-4-5-A20.pdf
footprint DFN-6-1EP_3x3mm_P1mm_EP1.65x2.55mm
pins: 1 SDA (io), 2 GND (power), 3 NC (in) hidden, 4 NC (in) hidden, 5 VDD (power), 6 SCL (in)

## Si7051-A20
designator *  value Si7051-A20
ki_keywords: I2C Temperature Sensor; ki_description: I2C Temperature Sensor, ±0.1ºC, DFN-6; ki_fp_filters: DFN*1EP*3x3mm*P1mm*; Footprint: Package_DFN_QFN:DFN-6-1EP_3x3mm_P1mm_EP1.65x2.55mm; Supplier: https://www.silabs.com/documents/public/data-sheets/Si7050-1-3-4-5-A20.pdf
footprint DFN-6-1EP_3x3mm_P1mm_EP1.65x2.55mm
pins: 1 SDA (io), 2 GND (power), 3 NC (in) hidden, 4 NC (in) hidden, 5 VDD (power), 6 SCL (in)

## Si7053-A20
designator *  value Si7053-A20
ki_keywords: I2C Temperature Sensor; ki_description: I2C Temperature Sensor, ±0.3ºC, DFN-6; ki_fp_filters: DFN*1EP*3x3mm*P1mm*; Footprint: Package_DFN_QFN:DFN-6-1EP_3x3mm_P1mm_EP1.65x2.55mm; Supplier: https://www.silabs.com/documents/public/data-sheets/Si7050-1-3-4-5-A20.pdf
footprint DFN-6-1EP_3x3mm_P1mm_EP1.65x2.55mm
pins: 1 SDA (io), 2 GND (power), 3 NC (in) hidden, 4 NC (in) hidden, 5 VDD (power), 6 SCL (in)

## Si7054-A20
designator *  value Si7054-A20
ki_keywords: I2C Temperature Sensor; ki_description: I2C Temperature Sensor, ±0.4ºC, DFN-6; ki_fp_filters: DFN*1EP*3x3mm*P1mm*; Footprint: Package_DFN_QFN:DFN-6-1EP_3x3mm_P1mm_EP1.65x2.55mm; Supplier: https://www.silabs.com/documents/public/data-sheets/Si7050-1-3-4-5-A20.pdf
footprint DFN-6-1EP_3x3mm_P1mm_EP1.65x2.55mm
pins: 1 SDA (io), 2 GND (power), 3 NC (in) hidden, 4 NC (in) hidden, 5 VDD (power), 6 SCL (in)

## Si7055-A20
designator *  value Si7055-A20
ki_keywords: I2C Temperature Sensor; ki_description: I2C Temperature Sensor, ±0.5ºC, DFN-6; ki_fp_filters: DFN*1EP*3x3mm*P1mm*; Footprint: Package_DFN_QFN:DFN-6-1EP_3x3mm_P1mm_EP1.65x2.55mm; Supplier: https://www.silabs.com/documents/public/data-sheets/Si7050-1-3-4-5-A20.pdf
footprint DFN-6-1EP_3x3mm_P1mm_EP1.65x2.55mm
pins: 1 SDA (io), 2 GND (power), 3 NC (in) hidden, 4 NC (in) hidden, 5 VDD (power), 6 SCL (in)

## TC1047AxNB
designator *  value TC1047AxNB
ki_keywords: temperature sensor analog; ki_description: Precision Temperature-to-Voltage Converter, 10mV/ºC, -40ºC to +125ºC, ±2.0ºC (max), 2.5V to 5.5V, SOT-23; ki_fp_filters: SOT?23*; Footprint: Package_TO_SOT_SMD:SOT-23; Supplier: http://ww1.microchip.com/downloads/en/DeviceDoc/21498D.pdf
footprint SOT-23
pins: 1 Vdd (power), 2 Vout (out), 3 GND (power)

## TC1047xNB
designator *  value TC1047xNB
ki_keywords: temperature sensor analog; ki_description: Precision Temperature-to-Voltage Converter, 10mV/ºC, -40ºC to +125ºC, ±2.0ºC (max), 2.7V to 4.4V, SOT-23; ki_fp_filters: SOT?23*; Footprint: Package_TO_SOT_SMD:SOT-23; Supplier: http://ww1.microchip.com/downloads/en/DeviceDoc/21498D.pdf
footprint SOT-23
pins: 1 Vdd (power), 2 Vout (out), 3 GND (power)

## TMP20AIDCK
designator *  value TMP20AIDCK
ki_keywords: temperature sensor thermistor; ki_description: Analog thermistor temperature sensor, ±2.5C accuracy, -55C to +130C, SC-70-5; ki_fp_filters: SC?70*; Footprint: Package_TO_SOT_SMD:SOT-353_SC-70-5; Supplier: http://www.ti.com/lit/ds/symlink/tmp20.pdf
footprint SOT-353_SC-70-5
pins: 1 NC (in) hidden, 2 GND (power), 3 Vout (out), 4 Vdd (power), 5 GND hidden

## TMP20AIDRL
designator *  value TMP20AIDRL
ki_keywords: temperature sensor thermistor; ki_description: Analog thermistor temperature sensor, ±2.5C accuracy, -55C to +130C, SOT-563-6; ki_fp_filters: SOT?563*; Supplier: http://www.ti.com/lit/ds/symlink/tmp20.pdf
pins: 1 NC (in) hidden, 2 GND (power), 3 Vout (out), 4 Vdd (power), 5 NC (in) hidden, 6 GND hidden

## TMP36xS
designator *  value TMP36xS
ki_keywords: Temperature Sensor SOIC-8; ki_description: Low Voltage Temperature Sensor, SOIC-8; ki_fp_filters: SOIC?8*3.9x4.9mm*P1.27mm*; Footprint: Package_SO:SOIC-8_3.9x4.9mm_P1.27mm; Supplier: https://www.analog.com/media/en/technical-documentation/data-sheets/TMP35_36_37.pdf
footprint SOIC-8_3.9x4.9mm_P1.27mm
pins: 1 Vout (out), 4 GND (power), 5 ~{{SHUTDOWN}} (in), 8 +Vs (power)

## TMP100
designator *  value TMP100
ki_keywords: temperature sensor i2c smbus; ki_description: Temperature Sensor with I2C/SMBus Interface, SOT-23-6; ki_fp_filters: SOT?23*; Footprint: Package_TO_SOT_SMD:SOT-23-6; Supplier: http://www.ti.com/lit/gpn/tmp100
footprint SOT-23-6
pins: 1 SCL (in), 2 GND (power), 3 ADD1 (in), 4 V+ (power), 5 ADD0 (in), 6 SDA (io)

## TMP101
designator *  value TMP101
ki_keywords: temperature sensor i2c smbus; ki_description: Temperature Sensor with I2C/SMBus Interface, SOT-23-6; ki_fp_filters: SOT?23*; Footprint: Package_TO_SOT_SMD:SOT-23-6; Supplier: http://www.ti.com/lit/gpn/tmp101
footprint SOT-23-6
pins: 1 SCL (in), 2 GND (power), 3 ALERT (oc), 4 V+ (power), 5 ADD0 (in), 6 SDA (io)

## TMP411
designator *  value TMP411
ki_keywords: Temperature sensor remote local i2c; ki_description: - Remote and Local TEMPERATURE SENSOR; ki_fp_filters: SOIC*3.9x4.9mm*P1.27mm* VSSOP*3.0x3.0mm*P0.65mm*; Supplier: http://www.ti.com.cn/cn/lit/ds/symlink/tmp411.pdf
pins: 1 V+ (power), 2 D+, 3 D-, 4 ~{{TERM}} (oc), 5 GND (power), 6 ~{{ALERT}} (oc), 7 SDA (io), 8 SCL (in)

## TMP1075D
designator *  value TMP1075D
ki_keywords: temperature sensor I2C single channel; ki_description: I2C-bus digital temperature sensor and thermal watchdog, SO-8; ki_fp_filters: SO*3.9x4.9mm*P1.27mm*; Footprint: Package_SO:SO-8_3.9x4.9mm_P1.27mm; Supplier: https://www.ti.com/lit/gpn/tmp1075
footprint SO-8_3.9x4.9mm_P1.27mm
pins: 1 SDA (io), 2 SCL (in), 3 ALERT (oc), 4 GND (power), 5 A2 (in), 6 A1 (in), 7 A0 (in), 8 V+ (power)

## TMP1075DGK
designator *  value TMP1075DGK
ki_keywords: temperature sensor I2C single channel; ki_description: I2C-bus digital temperature sensor and thermal watchdog, VSSOP-8; ki_fp_filters: VSSOP*3.0x3.0mm*P0.65mm*; Footprint: Package_SO:VSSOP-8_3.0x3.0mm_P0.65mm; Supplier: https://www.ti.com/lit/gpn/tmp1075
footprint VSSOP-8_3.0x3.0mm_P0.65mm
pins: 1 SDA (io), 2 SCL (in), 3 ALERT (oc), 4 GND (power), 5 A2 (in), 6 A1 (in), 7 A0 (in), 8 V+ (power)

## TMP1075DSG
designator *  value TMP1075DSG
ki_keywords: temperature sensor I2C single channel; ki_description: I2C-bus digital temperature sensor and thermal watchdog, WSON-8; ki_fp_filters: WSON*1EP*2x2mm*P0.5mm*; Footprint: Package_SON:WSON-8-1EP_2x2mm_P0.5mm_EP0.9x1.6mm_ThermalVias; Supplier: https://www.ti.com/lit/gpn/tmp1075
footprint WSON-8-1EP_2x2mm_P0.5mm_EP0.9x1.6mm_ThermalVias
pins: 1 SDA (io), 2 SCL (in), 3 ALERT (oc), 4 GND (power), 5 A2 (in), 6 A1 (in), 7 A0 (in), 8 V+ (power), 9 EP

## TSIC206-SO8
designator *  value TSIC206-SO8
ki_keywords: temperature digital; ki_description: Digital temperature sensor, range -50 ... +150 °C, 0.5 K accuracy, SO-8; ki_fp_filters: SOIC*3.9x4.9mm*P1.27mm*; Footprint: Package_SO:SOIC-8_3.9x4.9mm_P1.27mm; Supplier: https://shop.bb-sensors.com/out/media/Datasheet_Digital_Semiconductor_temperatur_sensor_TSIC.pdf
footprint SOIC-8_3.9x4.9mm_P1.27mm
pins: 1 V+ (power), 2 Signal (out), 3 NC (in) hidden, 4 GND (power), 5 NC (in) hidden, 6 NC (in) hidden, 7 NC (in) hidden, 8 NC (in) hidden

## TSIC206-TO92
designator *  value TSIC206-TO92
ki_keywords: temperature digital; ki_description: Digital temperature sensor, range -50 ... +150 °C, 0.5 K accuracy, TO-92; ki_fp_filters: TO?92*Inline*Narrow*Oval*; Footprint: Package_TO_SOT_THT:TO-92_Inline; Supplier: https://shop.bb-sensors.com/out/media/Datasheet_Digital_Semiconductor_temperatur_sensor_TSIC.pdf
footprint TO-92_Inline
pins: 1 V+ (power), 2 Signal (out), 3 GND (power)

## TSIC306-SO8
designator *  value TSIC306-SO8
ki_keywords: temperature digital; ki_description: Digital temperature sensor, range -50 ... +150 °C, 0.3 K accuracy, SO-8; ki_fp_filters: SOIC*3.9x4.9mm*P1.27mm*; Footprint: Package_SO:SOIC-8_3.9x4.9mm_P1.27mm; Supplier: https://shop.bb-sensors.com/out/media/Datasheet_Digital_Semiconductor_temperatur_sensor_TSIC.pdf
footprint SOIC-8_3.9x4.9mm_P1.27mm
pins: 1 V+ (power), 2 Signal (out), 3 NC (in) hidden, 4 GND (power), 5 NC (in) hidden, 6 NC (in) hidden, 7 NC (in) hidden, 8 NC (in) hidden

## TSIC306-TO92
designator *  value TSIC306-TO92
ki_keywords: temperature digital; ki_description: Digital temperature sensor, range -50 ... +150 °C, 0.3 K accuracy, TO-92; ki_fp_filters: TO?92*Inline*Narrow*Oval*; Footprint: Package_TO_SOT_THT:TO-92_Inline; Supplier: https://shop.bb-sensors.com/out/media/Datasheet_Digital_Semiconductor_temperatur_sensor_TSIC.pdf
footprint TO-92_Inline
pins: 1 V+ (power), 2 Signal (out), 3 GND (power)